# Altium footprint library Cornix_Library.PcbLib: 6 footprints
Each footprint in its own frame and in the unit in brackets; x right, y up, seen from the top. Pads: shape width x height; smd on the part's side, far side on the other; paste and mask are expansions set on the pad; w line width, h text height; cw(c..) or ccw(c..) is an arc to the next point about the centre after c.
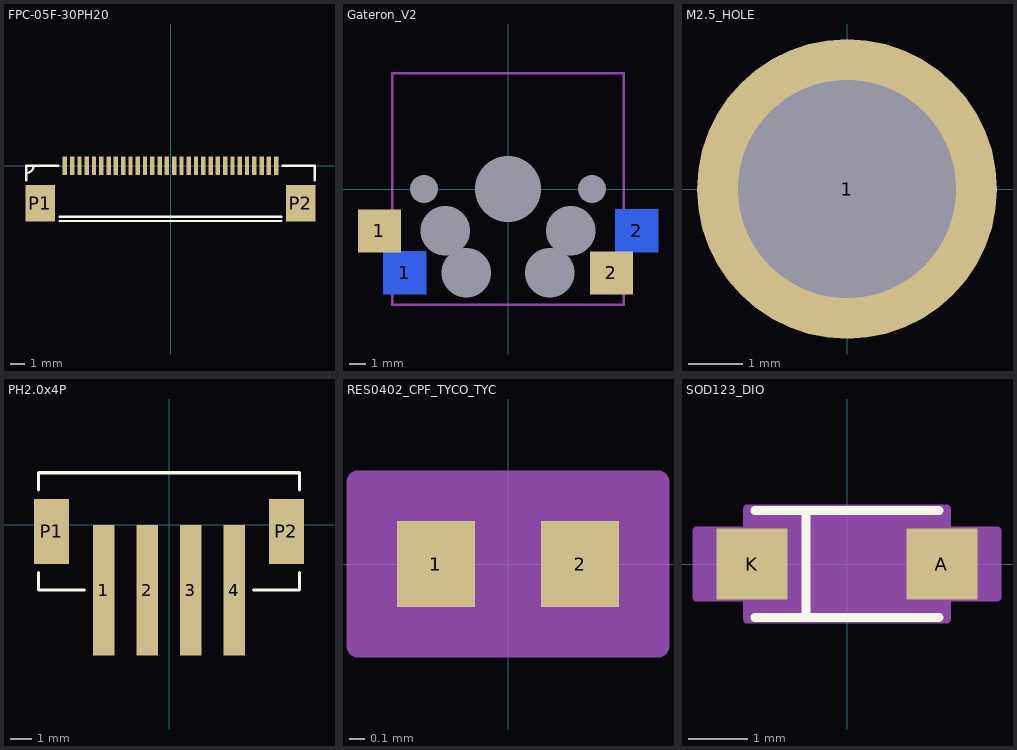
[diagram p0: the footprints below, top view; thin cyan lines are the x and y axes]

## FPC-05F-30PH20 [mm]
pads (32):
  rect 0.3x1.25 smd mask+0: 1(-7.25,0) 2(-6.75,0) 3(-6.25,0) 4(-5.75,0) 5(-5.25,0) 6(-4.75,0) 7(-4.25,0) 8(-3.75,0) 9(-3.25,0) 10(-2.75,0) 11(-2.25,0) 12(-1.75,0) 13(-1.25,0) 14(-0.75,0) 15(-0.25,0) 16(0.25,0) 17(0.75,0) 18(1.25,0) 19(1.75,0) 20(2.25,0) 21(2.75,0) 22(3.25,0) 23(3.75,0) 24(4.25,0) 25(4.75,0) 26(5.25,0) 27(5.75,0) 28(6.25,0) 29(6.75,0) 30(7.25,0)
  rect 2x2.5 smd: P1(-8.94,-2.575) P2(8.94,-2.575)
Top Overlay:
  lines w0.152: -9.9,-1 -9.9,0 -7.7,0 ; -9.9,-0.5 ccw(c-9.9,0) -9.4,0 ; -7.6,-3.8 7.6,-3.8 ; -7.6,-3.5 7.6,-3.5 ; 7.7,0 9.9,0 9.9,-1

## Gateron_V2 [mm]
pads (11):
  rect 2.6x2.6 smd: 1(-7.79,-2.54) 2(6.26,-5.08)
  rect 2.6x2.6 smd far side: 1(-6.26,-5.08) 2(7.79,-2.54)
  round 0 hole 1.7: ""(-5.08,0) ""(5.08,0)
  round 0 hole 3: ""(-3.81,-2.54) ""(-2.54,-5.08) ""(2.54,-5.08) ""(3.81,-2.54)
  round 0 hole 4: ""(0,0)
Mechanical 1:
  lines w0.152: -7,-7 7,-7 7,7 -7,7 -7,-7

## M2.5_HOLE [mm]
pads (1):
  round 5.5 hole 4: 1(0,0)

## PH2.0x4P [mm]
pads (6):
  rect 1x6 smd: 1(-3,-3) 2(-1,-3) 3(1,-3) 4(3,-3)
  rect 1.6x3 smd: P1(-5.4,-0.3) P2(5.4,-0.3)
Top Overlay:
  lines w0.152: -6,-2.2 -6,-3 -3.9,-3 ; -6,1.6 -6,2.4 6,2.4 6,1.6 ; 3.9,-3 6,-3 6,-2.2

## RES0402_CPF_TYCO_TYC [mil]
pads (2):
  rect 20x22 smd paste+0 mask+0: 1(-18.5,0) 2(18.5,0)
Mechanical 13:
  lines w1: -20.5,-11 -20.5,11 ; -20.5,-11 20.5,-11 ; -20.5,-11 -8.5,-11 -8.5,11 -20.5,11 ; -20.5,-11 -20.5,11 ; -20.5,11 20.5,11 ; 20.5,-11 20.5,11 ; 20.5,-11 20.5,11 ; 20.5,-11 8.5,-11 8.5,11 20.5,11
Mechanical 15:
  region: 38.5,-21 -38.5,-21 -38.5,21 38.5,21
  lines w6: -38.5,-21 38.5,-21 38.5,21 -38.5,21 -38.5,-21
3D body "RES0402_CPF_TYCO_TYC.step": height 14.02, standoff 0, extent -20.51,-10.98 20.51,10.98

## SOD123_DIO [mm]
pads (2):
  rect 1.2x1.2 smd paste+0 mask+0: A(1.6,0) K(-1.6,0)
Top Overlay:
  lines w0.152: -1.552,-0.902 1.552,-0.902 ; -1.552,0.902 1.552,0.902 ; -0.689,-0.9 -0.689,0.9
Mechanical 13:
  lines w0.025: -1.425,-0.337 -1.087,-0.675 ; -1.425,0.337 -1.087,0.675 ; -1.925,-0.275 -1.425,-0.275 -1.425,0.275 -1.925,0.275 -1.925,-0.275 ; -1.425,-0.675 -1.425,0.675 1.425,0.675 1.425,-0.675 -1.425,-0.675 ; 1.425,-0.275 1.925,-0.275 1.925,0.275 1.425,0.275 1.425,-0.275
  text "*" at -1.488,-0.635 h1.27
Mechanical 15:
  region: -1.679,-0.559 -2.529,-0.559 -2.529,0.559 -1.679,0.559 -1.679,0.929 1.679,0.929 1.679,0.559 2.529,0.559 2.529,-0.559 1.679,-0.559 1.679,-0.929 -1.679,-0.929
  lines w0.152: -2.529,-0.559 -1.679,-0.559 -1.679,-0.929 1.679,-0.929 1.679,-0.559 2.529,-0.559 2.529,0.559 1.679,0.559 1.679,0.929 -1.679,0.929 -1.679,0.559 -2.529,0.559 -2.529,-0.559
3D body "SOD123_DIO.step": height 0.81, standoff 0, extent -1.925,-0.675 1.925,0.675